# Altium schematic symbol library ERJ-PB6B1003V.SchLib: 1 symbol
Pins are listed as number, name and electrical type; pins without a type are passive.

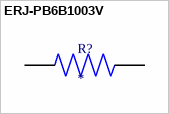
[diagram p0: symbol ERJ-PB6B1003V]

## ERJ-PB6B1003V
designator R?
MF: {'manufacturer': u'Panasonic'}; MP: ERJ-PB6B1003V; Price: None; Package: None; Availability: Unavailable; Value: *
footprint RESC2012X70N
pins: 1, 2